# EAGLE library part 750310660 (library Wurth_Power Magnetics_WE-OLSTM)
WE-OLSTM Offline Flyback Transformers Characteristics Nominal input voltage: 85–265 VAC (120–375 VDC) Operating temperature: –40 °C to +125 °C Isolation voltage: 2 kVAC up to 5 kVAC Multiple output options Options for fixed frequency or quasi-resonant mode operation Most products meet reinforced insulation Applications Offline-switch mode power supplies Especially designed for several ICs from STMicroelectronics Auxiliary power supply Home appliances Consumer electronics <https://www.we-online.com/components/media/o781306v209%20FAMILY-MID-OLSTM.jpg> Details see: www.we-online.com/en/components/products/WE-OLSTM <www.we-online.com/en/components/products/WE-OLSTM/?utm_source=eagle_model&utm_medium=description_link&utm_campaign=eisos_eagle> Created by Leviosa 2024-04-15 2024(C) Wurth Elektronik
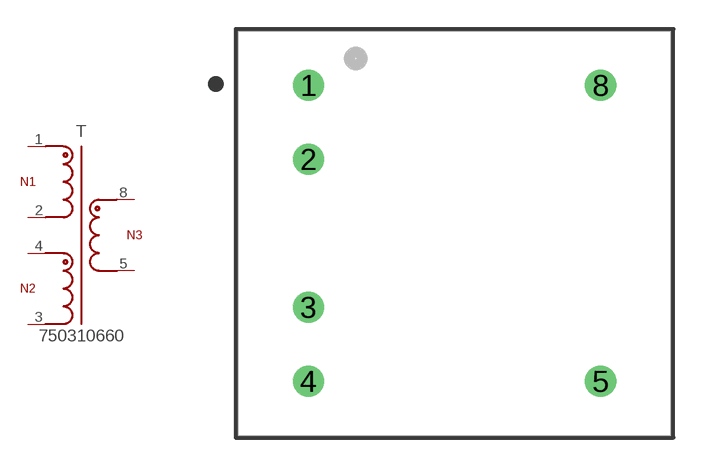
[diagram p24: symbol with the pads of WE-OLSTM_EE16_L20.83W22.35H17.53; footprint WE-OLSTM_EE16_L20.83W22.35H17.53]

Designator prefix T

## 750310660 (DATASHEET-URL: https://www.we-online.com/redexpert/spec/750310660?ae; FSWITCH: 120kHz; IOUT1: 500mA; L: 1.2mH; MOUNT: THT; N: 7.87:1:1; PART-NUMBER: 750310660; SIZE: EE16/8/5; VALUE: 750310660; VAUX: 12V; VIN: 85 - 265 V (AC); VOUT1: 12V; VT: 3600V(AC))  [WE-OLSTM_EE16_L20.83W22.35H17.53]
1  1  pas
2  2  pas
3  3  pas
4  4  pas
5  5  pas
8  8  pas

## Footprint WE-OLSTM_EE16_L20.83W22.35H17.53 (pad centres in mm)
WE-OLSTM Offline Flyback Transformers for STMicroelectronics Size: EE16, THT, 6Pins LXWXH=20.83X22.35X17.53mm
drill 1.07: 1 -7.525,7.62; 2 -7.525,3.81; 3 -7.525,-3.81; 4 -7.525,-7.62; 5 7.525,-7.62; 8 7.525,7.62